# Altium integrated library Linear Technology Power Management Switching Regulator LTC1174-LTC3901.IntLib: 2647 symbols (part 353 of 364)
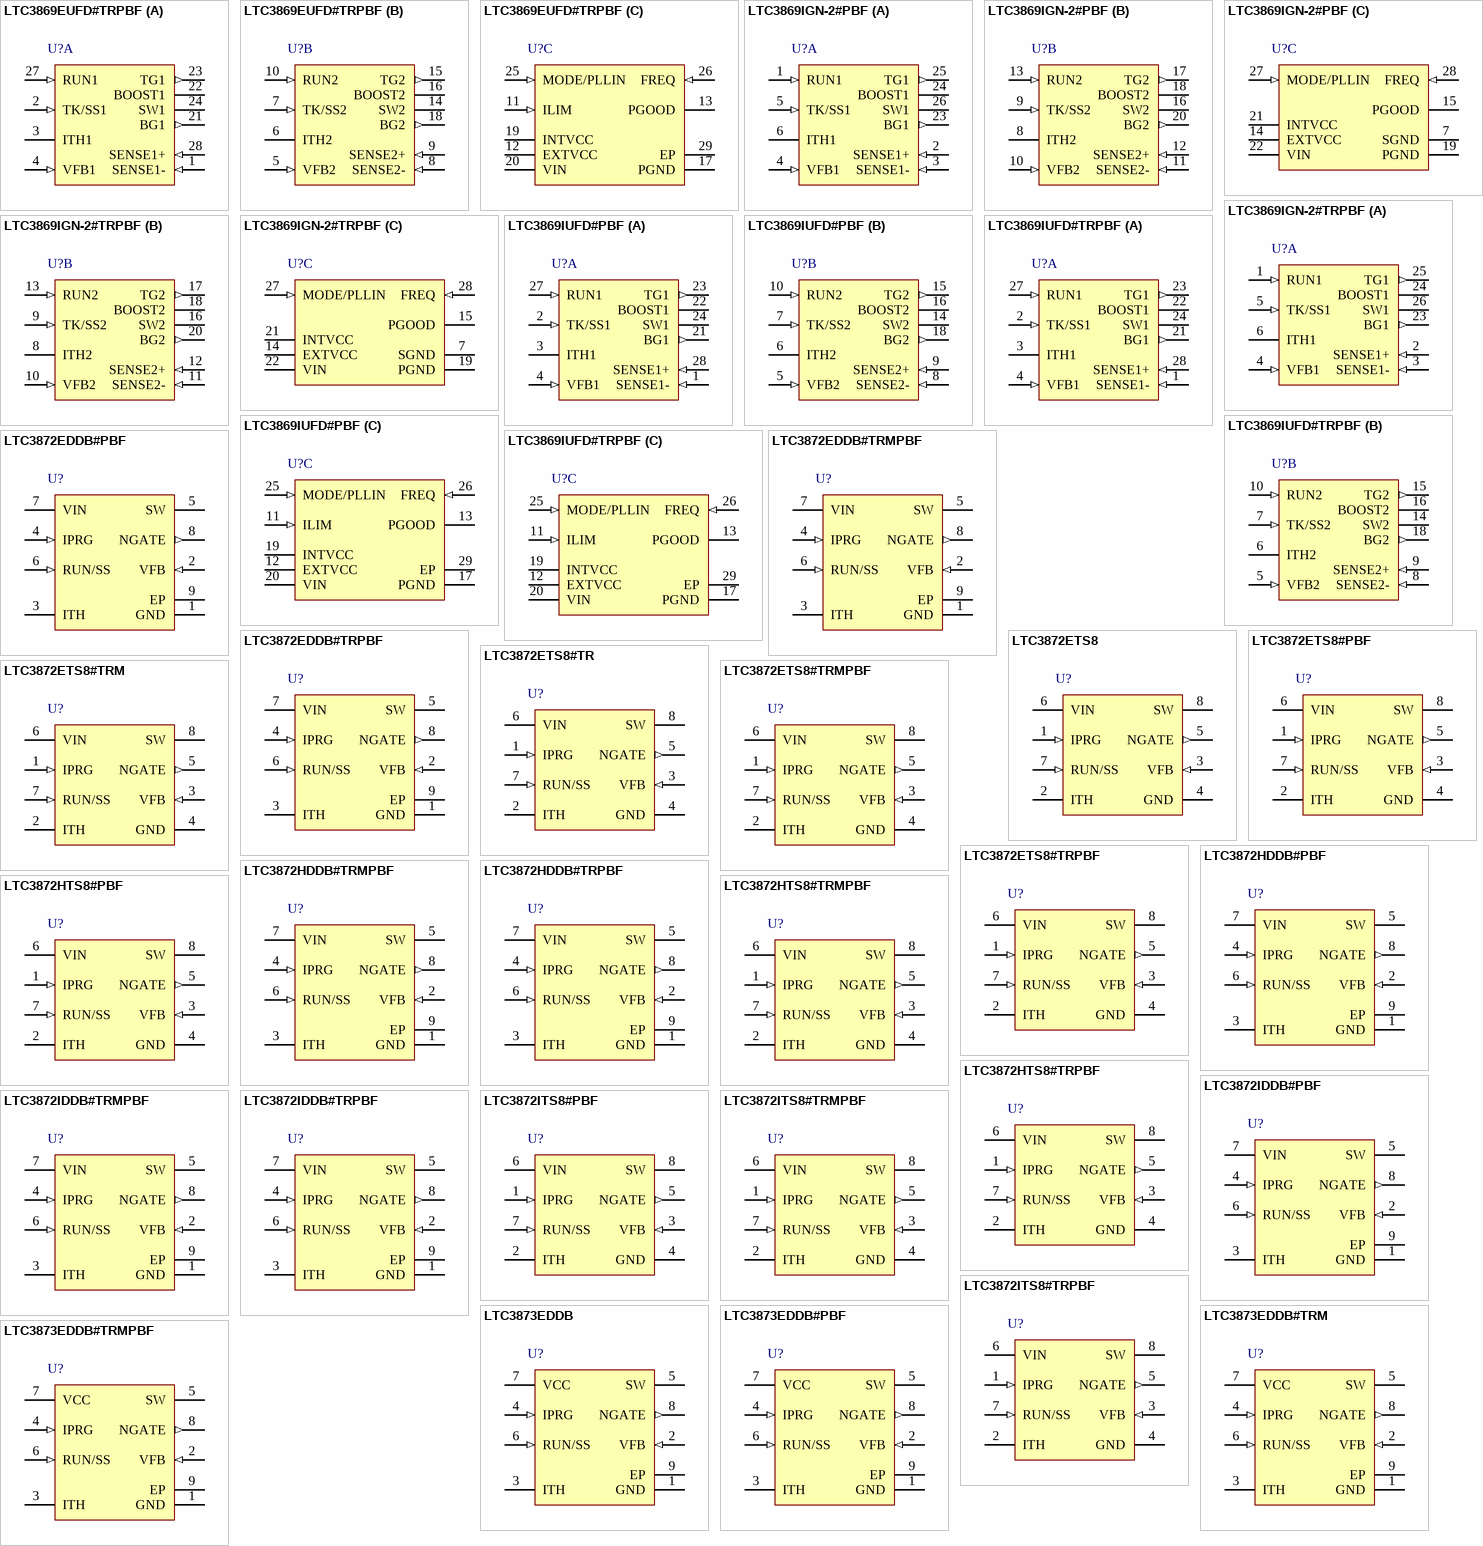
[diagram p399: symbols LTC3869EUFD#TRPBF to LTC3873EDDB#TRMPBF]

## LTC3872ETS8#TR
designator U?
No Rsense Current Mode Boost DC/DC Controller, 8-pin SOT23 (TS8-8), -40 to 85 degC, Tape and Reel; Manufacturer: Linear Technology; PartNumber: LTC3872ETS8#TR; Number of Outputs: 1; DatasheetVersion: Rev. B; PackageVersion: Rev. A, 08/2010; PackageReference: TS8-8; PackageDescription: 8-Pin Plastic TSOT-23, Body 2.9 x 1.63 mm, Pitch 0.65 mm; Packing: Tape and Reel; RoHS: FALSE; Mounting Technology: Surface Mount; Code_JEDEC: MO-193; ComponentLink1Description: Manufacturer URL; ComponentLink1URL: http://www.linear.com/; ComponentLink2Description: Datasheet; ComponentLink2URL: http://cds.linear.com/docs/en/datasheet/3872fb.pdf; ComponentLink3Description: Package Specification; ComponentLink3URL: http://cds.linear.com/docs/en/packaging/SOT_8_05-08-1637.pdf
footprint LT-TS8-8-TSOT-23_V (SOT23, 8-Leads, Body 2.9x1.75mm, Pitch 0.65mm)
pins: 1 IPRG (in) "Current Sense Limit Select Pin", 2 ITH "It serves as the error amplifier compensation point. Nominal voltage range for this pin is  0.7V to 1.9V.", 3 VFB (in) "Receives the feedback voltage from an  external resistor divider across the output.", 4 GND (power) "Ground. The exposed pad must be soldered to PCB ground for electrical  contact and rated thermal performance", 5 NGATE (out) "Gate Drive for the External N-Channel  MOSFET. This pin swings from 0V to VIN.", 6 VIN (power) "Supply Pin. This pin must be closely  decoupled to GND.", 7 RUN/SS (in) "Shutdown and external soft-start  pin. In shutdown, all functions are disabled and the NGATE  pin is held low.", 8 SW "Switch node connection to inductor and  current sense input pin through external slope compensation resistor. Normally, the external N-channel MOSFET’s  drain is connected to this pin."

## LTC3872ETS8#TRM
designator U?
No Rsense Current Mode Boost DC/DC Controller, 8-pin SOT23 (TS8-8), -40 to 85 degC, Mini Tape and Reel; Manufacturer: Linear Technology; PartNumber: LTC3872ETS8#TRM; Number of Outputs: 1; DatasheetVersion: Rev. B; PackageVersion: Rev. A, 08/2010; PackageReference: TS8-8; PackageDescription: 8-Pin Plastic TSOT-23, Body 2.9 x 1.63 mm, Pitch 0.65 mm; Packing: Mini Tape and Reel; RoHS: FALSE; Mounting Technology: Surface Mount; Code_JEDEC: MO-193; ComponentLink1Description: Manufacturer URL; ComponentLink1URL: http://www.linear.com/; ComponentLink2Description: Datasheet; ComponentLink2URL: http://cds.linear.com/docs/en/datasheet/3872fb.pdf; ComponentLink3Description: Package Specification; ComponentLink3URL: http://cds.linear.com/docs/en/packaging/SOT_8_05-08-1637.pdf
footprint LT-TS8-8-TSOT-23_V (SOT23, 8-Leads, Body 2.9x1.75mm, Pitch 0.65mm)
pins: 1 IPRG (in) "Current Sense Limit Select Pin", 2 ITH "It serves as the error amplifier compensation point. Nominal voltage range for this pin is  0.7V to 1.9V.", 3 VFB (in) "Receives the feedback voltage from an  external resistor divider across the output.", 4 GND (power) "Ground. The exposed pad must be soldered to PCB ground for electrical  contact and rated thermal performance", 5 NGATE (out) "Gate Drive for the External N-Channel  MOSFET. This pin swings from 0V to VIN.", 6 VIN (power) "Supply Pin. This pin must be closely  decoupled to GND.", 7 RUN/SS (in) "Shutdown and external soft-start  pin. In shutdown, all functions are disabled and the NGATE  pin is held low.", 8 SW "Switch node connection to inductor and  current sense input pin through external slope compensation resistor. Normally, the external N-channel MOSFET’s  drain is connected to this pin."

## LTC3872ETS8#TRMPBF
designator U?
No Rsense Current Mode Boost DC/DC Controller, 8-pin SOT23 (TS8-8), -40 to 85 degC, Pb-Free, Mini Tape and Reel; Manufacturer: Linear Technology; PartNumber: LTC3872ETS8#TRMPBF; Number of Outputs: 1; DatasheetVersion: Rev. B; PackageVersion: Rev. A, 08/2010; PackageReference: TS8-8; PackageDescription: 8-Pin Plastic TSOT-23, Body 2.9 x 1.63 mm, Pitch 0.65 mm; Supplier 1: Digi-Key; Supplier Part Number 1: LTC3872ETS8#TRMPBFTR-ND; Supplier 2: Digi-Key; Supplier Part Number 2: LTC3872ETS8#TRMPBFCT-ND; Supplier 3: Digi-Key; Supplier Part Number 3: LTC3872ETS8#TRMPBFDKR-ND; Supplier 4: Farnell; Supplier Part Number 4: 1556409; Supplier 5: Newark; Supplier Part Number 5: 56M8617; Packing: Mini Tape and Reel; RoHS: TRUE; Mounting Technology: Surface Mount; Code_JEDEC: MO-193; ComponentLink1Description: Manufacturer URL; ComponentLink1URL: http://www.linear.com/; ComponentLink2Description: Datasheet; ComponentLink2URL: http://cds.linear.com/docs/en/datasheet/3872fb.pdf; ComponentLink3Description: Package Specification; ComponentLink3URL: http://cds.linear.com/docs/en/packaging/SOT_8_05-08-1637.pdf
footprint LT-TS8-8-TSOT-23_V (SOT23, 8-Leads, Body 2.9x1.75mm, Pitch 0.65mm)
pins: 1 IPRG (in) "Current Sense Limit Select Pin", 2 ITH "It serves as the error amplifier compensation point. Nominal voltage range for this pin is  0.7V to 1.9V.", 3 VFB (in) "Receives the feedback voltage from an  external resistor divider across the output.", 4 GND (power) "Ground. The exposed pad must be soldered to PCB ground for electrical  contact and rated thermal performance", 5 NGATE (out) "Gate Drive for the External N-Channel  MOSFET. This pin swings from 0V to VIN.", 6 VIN (power) "Supply Pin. This pin must be closely  decoupled to GND.", 7 RUN/SS (in) "Shutdown and external soft-start  pin. In shutdown, all functions are disabled and the NGATE  pin is held low.", 8 SW "Switch node connection to inductor and  current sense input pin through external slope compensation resistor. Normally, the external N-channel MOSFET’s  drain is connected to this pin."

## LTC3872ETS8#TRPBF
designator U?
No Rsense Current Mode Boost DC/DC Controller, 8-pin SOT23 (TS8-8), -40 to 85 degC, Pb-Free, Tape and Reel; Manufacturer: Linear Technology; PartNumber: LTC3872ETS8#TRPBF; Number of Outputs: 1; DatasheetVersion: Rev. B; PackageVersion: Rev. A, 08/2010; PackageReference: TS8-8; PackageDescription: 8-Pin Plastic TSOT-23, Body 2.9 x 1.63 mm, Pitch 0.65 mm; Supplier 1: Digi-Key; Supplier Part Number 1: LTC3872ETS8#TRPBF-ND; Supplier 2: Newark; Supplier Part Number 2: 56M8618; Packing: Tape and Reel; RoHS: TRUE; Mounting Technology: Surface Mount; Code_JEDEC: MO-193; ComponentLink1Description: Manufacturer URL; ComponentLink1URL: http://www.linear.com/; ComponentLink2Description: Datasheet; ComponentLink2URL: http://cds.linear.com/docs/en/datasheet/3872fb.pdf; ComponentLink3Description: Package Specification; ComponentLink3URL: http://cds.linear.com/docs/en/packaging/SOT_8_05-08-1637.pdf
footprint LT-TS8-8-TSOT-23_V (SOT23, 8-Leads, Body 2.9x1.75mm, Pitch 0.65mm)
pins: 1 IPRG (in) "Current Sense Limit Select Pin", 2 ITH "It serves as the error amplifier compensation point. Nominal voltage range for this pin is  0.7V to 1.9V.", 3 VFB (in) "Receives the feedback voltage from an  external resistor divider across the output.", 4 GND (power) "Ground. The exposed pad must be soldered to PCB ground for electrical  contact and rated thermal performance", 5 NGATE (out) "Gate Drive for the External N-Channel  MOSFET. This pin swings from 0V to VIN.", 6 VIN (power) "Supply Pin. This pin must be closely  decoupled to GND.", 7 RUN/SS (in) "Shutdown and external soft-start  pin. In shutdown, all functions are disabled and the NGATE  pin is held low.", 8 SW "Switch node connection to inductor and  current sense input pin through external slope compensation resistor. Normally, the external N-channel MOSFET’s  drain is connected to this pin."

## LTC3872HDDB#PBF
designator U?
No Rsense Current Mode Boost DC/DC Controller, 8-pin SON (DDB-8), -40 to 150 degC, Pb-Free; Manufacturer: Linear Technology; PartNumber: LTC3872HDDB#PBF; Number of Outputs: 1; DatasheetVersion: Rev. B; PackageVersion: Rev. B, 06/2010; PackageReference: DDB-8; PackageDescription: 8-Pin Plastic DFN, Body 3 x 2 mm, Pitch 0.5 mm; RoHS: TRUE; Mounting Technology: Surface Mount; Code_JEDEC: MO-229; ComponentLink1Description: Manufacturer URL; ComponentLink1URL: http://www.linear.com/; ComponentLink2Description: Datasheet; ComponentLink2URL: http://cds.linear.com/docs/en/datasheet/3872fb.pdf; ComponentLink3Description: Package Specification; ComponentLink3URL: http://cds.linear.com/docs/en/packaging/DFN_8_05-08-1702.pdf
footprint LT-DDB-8_V (SON, 8-Leads, Body 3x2mm, Pitch 0.5mm, Thermal Pad 2.2x0.61mm)
pins: 1 GND (power) "Ground. The exposed pad must be soldered to PCB ground for electrical contact and rated thermal performance.", 2 VFB (in) "Receives the feedback voltage from an external resistor divider across the output.", 3 ITH "It serves as the error amplifier compensation point. Nominal voltage range for this pin is 0.7V to 1.9V", 4 IPRG (in) "Current Sense Limit Select Pin.", 5 SW "Switch node connection to inductor and current sense input pin through external slope compensation resistor. Normally, the external N-channel MOSFET’s drain is connected to this pin.", 6 RUN/SS (in) "Shutdown and external soft-start pin. In shutdown, all functions are disabled and the NGATE pin is held low.", 7 VIN (power) "Supply Pin. This pin must be closely decoupled to GND.", 8 NGATE (out) "Gate Drive for the External N-Channel MOSFET. This pin swings from 0V to VIN.", 9 EP (power) "Ground. The exposed pad must be soldered to PCB ground for electrical contact and rated thermal performance."

## LTC3872HDDB#TRMPBF
designator U?
No Rsense Current Mode Boost DC/DC Controller, 8-pin SON (DDB-8), -40 to 150 degC, Pb-Free, Mini Tape and Reel; Manufacturer: Linear Technology; PartNumber: LTC3872HDDB#TRMPBF; Number of Outputs: 1; DatasheetVersion: Rev. B; PackageVersion: Rev. B, 06/2010; PackageReference: DDB-8; PackageDescription: 8-Pin Plastic DFN, Body 3 x 2 mm, Pitch 0.5 mm; Supplier 1: Digi-Key; Supplier Part Number 1: LTC3872HDDB#TRMPBF-ND; Packing: Mini Tape and Reel; RoHS: TRUE; Mounting Technology: Surface Mount; Code_JEDEC: MO-229; ComponentLink1Description: Manufacturer URL; ComponentLink1URL: http://www.linear.com/; ComponentLink2Description: Datasheet; ComponentLink2URL: http://cds.linear.com/docs/en/datasheet/3872fb.pdf; ComponentLink3Description: Package Specification; ComponentLink3URL: http://cds.linear.com/docs/en/packaging/DFN_8_05-08-1702.pdf
footprint LT-DDB-8_V (SON, 8-Leads, Body 3x2mm, Pitch 0.5mm, Thermal Pad 2.2x0.61mm)
pins: 1 GND (power) "Ground. The exposed pad must be soldered to PCB ground for electrical contact and rated thermal performance.", 2 VFB (in) "Receives the feedback voltage from an external resistor divider across the output.", 3 ITH "It serves as the error amplifier compensation point. Nominal voltage range for this pin is 0.7V to 1.9V", 4 IPRG (in) "Current Sense Limit Select Pin.", 5 SW "Switch node connection to inductor and current sense input pin through external slope compensation resistor. Normally, the external N-channel MOSFET’s drain is connected to this pin.", 6 RUN/SS (in) "Shutdown and external soft-start pin. In shutdown, all functions are disabled and the NGATE pin is held low.", 7 VIN (power) "Supply Pin. This pin must be closely decoupled to GND.", 8 NGATE (out) "Gate Drive for the External N-Channel MOSFET. This pin swings from 0V to VIN.", 9 EP (power) "Ground. The exposed pad must be soldered to PCB ground for electrical contact and rated thermal performance."